# Altium integrated library TI Data Converters Analog to Digital Converter.IntLib: 2197 symbols (part 126 of 168)
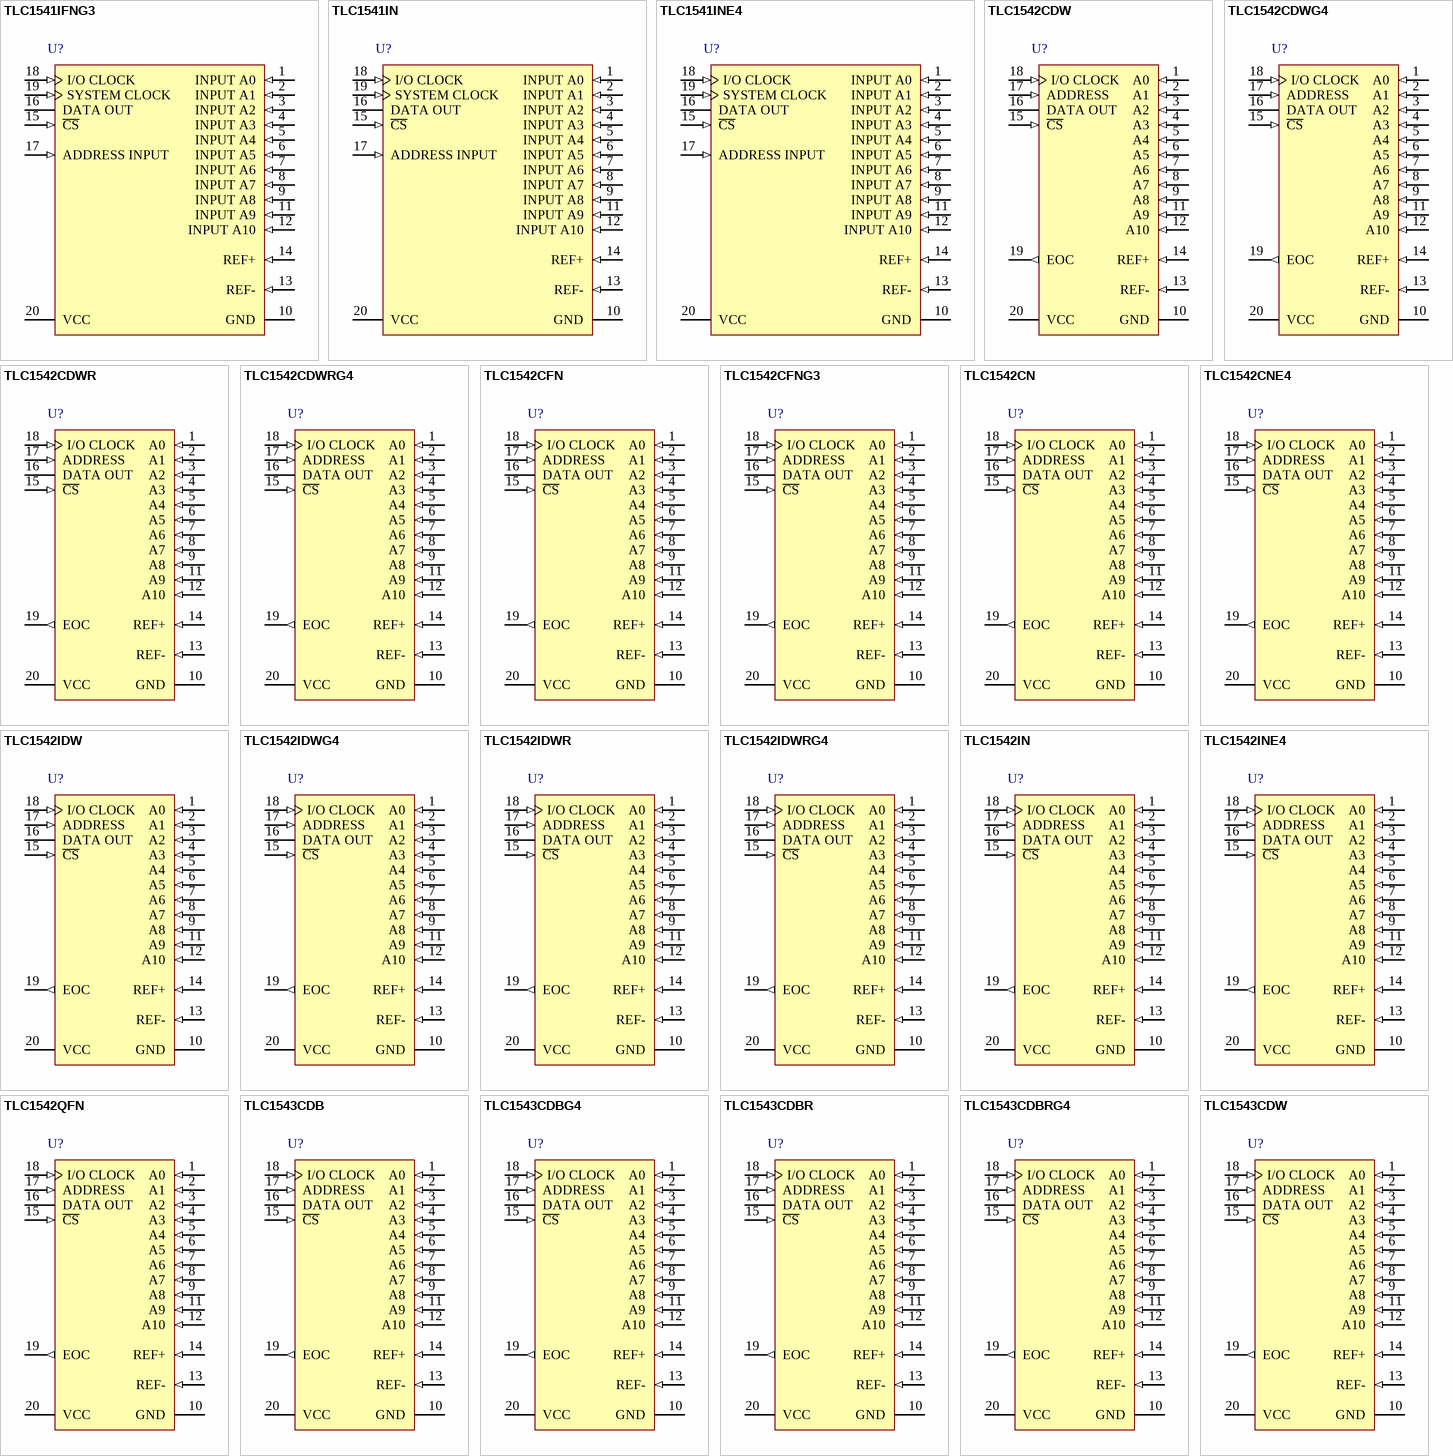
[diagram p251: symbols TLC1541IFNG3 to TLC1543CDW]

## TLC1542INE4
designator U?
10-Bit, 38 kSPS ADC Serial Out, On-Chip System Clock, 11 Channel, -40 to 85 degC, 20-pin DIP (N20), Pb-Free (RoHS); Manufacturer: Texas Instruments; PartNumber: TLC1542INE4; # Input Channels: 11; Analog Voltage AV/DD(Max)(V): 5.5; Analog Voltage AV/DD(Min)(V): 4.5; Architecture: SAR; INL(Max)(+/-LSB): 1; Interface: Serial SPI; Resolution(Bits): 10; Sample Rate (max)(SPS): 38k; SubFamily: Low Power, 8-Bit, Dual 1.5 GSPS or Single 3.0 GSPS A/D Converter; DatasheetVersion: SLAS052G; PackageVersion: 4040049/E, 12/2002; PackageReference: N20; PackageDescription: 20-Pin Plastic In-Line, Body 25.40 x 6.35 mm, Pitch 2.54 mm; Supplier 1: Digi-Key; Supplier Part Number 1: TLC549IPSR-ND; Supplier 2: Mouser; Supplier Part Number 2: 595-TLC549IPSR; Digital Supply(Max)(V): 5.5; Digital Supply(Min)(V): 4.5; Eco-Plan: Pb-Free (RoHS); Mounting Technology: Through Hole; Code_JEDEC: MS-001; ComponentLink1Description: Manufacturer URL; ComponentLink1URL: http://www.ti.com/; ComponentLink2Description: Datasheet; ComponentLink2URL: http://www.ti.com/general/docs/lit/getliterature.tsp?genericPartNumber=TLC1542&fileType=pdf; ComponentLink3Description: Package Specification; ComponentLink3URL: http://www.ti.com/lit/ml/mpdi002c/mpdi002c.pdf
footprint TI-N20 (DIP, 20-Leads, Body 25.4x6.35 mm, Pitch 2.54 mm)
pins: 1 A0 (in) "Analog signal inputs. The 11 analog inputs are applied to these terminals and are internally multiplexed. The driving source impedance should be less than or equal to 1 kohm.", 2 A1 (in) "Analog signal inputs. The 11 analog inputs are applied to these terminals and are internally multiplexed. The driving source impedance should be less than or equal to 1 kohm.", 3 A2 (in) "Analog signal inputs. The 11 analog inputs are applied to these terminals and are internally multiplexed. The driving source impedance should be less than or equal to 1 kohm.", 4 A3 (in) "Analog signal inputs. The 11 analog inputs are applied to these terminals and are internally multiplexed. The driving source impedance should be less than or equal to 1 kohm.", 5 A4 (in) "Analog signal inputs. The 11 analog inputs are applied to these terminals and are internally multiplexed. The driving source impedance should be less than or equal to 1 kohm.", 6 A5 (in) "Analog signal inputs. The 11 analog inputs are applied to these terminals and are internally multiplexed. The driving source impedance should be less than or equal to 1 kohm.", 7 A6 (in) "Analog signal inputs. The 11 analog inputs are applied to these terminals and are internally multiplexed. The driving source impedance should be less than or equal to 1 kohm.", 8 A7 (in) "Analog signal inputs. The 11 analog inputs are applied to these terminals and are internally multiplexed. The driving source impedance should be less than or equal to 1 kohm.", 9 A8 (in) "Analog signal inputs. The 11 analog inputs are applied to these terminals and are internally multiplexed. The driving source impedance should be less than or equal to 1 kohm.", 10 GND (power) "The ground return terminal for the internal circuitry. Unless otherwise noted, all voltage measurements are with respect to this terminal.", 11 A9 (in) "Analog signal inputs. The 11 analog inputs are applied to these terminals and are internally multiplexed. The driving source impedance should be less than or equal to 1 kohm.", 12 A10 (in) "Analog signal inputs. The 11 analog inputs are applied to these terminals and are internally multiplexed. The driving source impedance should be less than or equal to 1 kohm.", 13 REF- (in) "The lower reference voltage value (nominally ground) is applied to this terminal.", 14 REF+ (in) "The upper reference voltage value (nominally VCC) is applied to this terminal. The maximum input voltage range is determined by the difference between the voltage applied to this terminal and the voltage applied to the REF- (See Datasheet)", 15 ~{CS} (in) "Chip select. A high-to-low transition on this input resets the internal counters and controls and enables DATA OUT, ADDRESS, and I/O CLOCK within a maximum of a setup time plus two falling edges of the internal system clock. (See Datasheet)", 16 DATA OUT (hiz) "The 3-state serial output for the A/D conversion result. This output is in the high-impedance state when C\S\ is high and active when C\S\ is low. With a valid chip select, DATA OUT is removed from the high-impedance state (See Datasheet)", 17 ADDRESS (in) "Serial address input. A 4-bit serial address selects the desired analog input or test voltage that is to be converted next. The address data is presented with the MSB first and shifts in on the first four rising edges of I/O (See Datasheet)", 18 I/O CLOCK (in) "Input/output clock. This terminal receives the serial I/O CLOCK input and performs the following four functions: 1) It clocks the four input address bits into the address register on the first four rising edges of the I/O (See Datasheet)", 19 EOC (out) "End of conversion. This output goes from a high to a low logic level on the trailing edge of the tenth I/O CLOCK and remains low until the conversion is complete and data are ready for transfer.", 20 VCC (power) "Positive supply voltage"

## TLC1542QFN
designator U?
10-Bit, 38 kSPS ADC Serial Out, On-Chip System Clock, 11 Channel, -40 to 125 degC, 20-pin PLCC (FN20), Green (RoHS & no Sb/Br); Manufacturer: Texas Instruments; PartNumber: TLC1542QFN; # Input Channels: 11; Analog Voltage AV/DD(Max)(V): 5.5; Analog Voltage AV/DD(Min)(V): 4.5; Architecture: SAR; INL(Max)(+/-LSB): 1; Interface: Serial SPI; Resolution(Bits): 10; Sample Rate (max)(SPS): 38k; SubFamily: Low Power, 8-Bit, Dual 1.5 GSPS or Single 3.0 GSPS A/D Converter; DatasheetVersion: SLAS052G; PackageVersion: 4040005/B, 03/1995; PackageReference: FN20; PackageDescription: 20-Pin Plastic Chip Carrier, Body 8.965 x 8.965 mm, Pitch 1.27 mm; Supplier 1: Digi-Key; Supplier Part Number 1: TLC549IPSRG4-ND; Supplier 2: Mouser; Supplier Part Number 2: 595-TLC549IPSRG4; Digital Supply(Max)(V): 5.5; Digital Supply(Min)(V): 4.5; Eco-Plan: Green (RoHS & no Sb/Br); Mounting Technology: Surface Mount; Code_JEDEC: MS-018; ComponentLink1Description: Manufacturer URL; ComponentLink1URL: http://www.ti.com/; ComponentLink2Description: Datasheet; ComponentLink2URL: http://www.ti.com/general/docs/lit/getliterature.tsp?genericPartNumber=TLC1542&fileType=pdf; ComponentLink3Description: Package Specification; ComponentLink3URL: http://www.ti.com/litv/pdf/mplc004a
footprint TI-FN20_N (PLCC, 20-Leads, Body 8.965x8.965mm, Pitch 1.27mm, IPC Medium Density)
footprint TI-FN20_L (PLCC, 20-Leads, Body 8.965x8.965mm, Pitch 1.27mm, IPC High Density)
footprint TI-FN20_M (PLCC, 20-Leads, Body 8.965x8.965mm, Pitch 1.27mm, IPC Low Density)
pins: 1 A0 (in) "Analog signal inputs. The 11 analog inputs are applied to these terminals and are internally multiplexed. The driving source impedance should be less than or equal to 1 kohm.", 2 A1 (in) "Analog signal inputs. The 11 analog inputs are applied to these terminals and are internally multiplexed. The driving source impedance should be less than or equal to 1 kohm.", 3 A2 (in) "Analog signal inputs. The 11 analog inputs are applied to these terminals and are internally multiplexed. The driving source impedance should be less than or equal to 1 kohm.", 4 A3 (in) "Analog signal inputs. The 11 analog inputs are applied to these terminals and are internally multiplexed. The driving source impedance should be less than or equal to 1 kohm.", 5 A4 (in) "Analog signal inputs. The 11 analog inputs are applied to these terminals and are internally multiplexed. The driving source impedance should be less than or equal to 1 kohm.", 6 A5 (in) "Analog signal inputs. The 11 analog inputs are applied to these terminals and are internally multiplexed. The driving source impedance should be less than or equal to 1 kohm.", 7 A6 (in) "Analog signal inputs. The 11 analog inputs are applied to these terminals and are internally multiplexed. The driving source impedance should be less than or equal to 1 kohm.", 8 A7 (in) "Analog signal inputs. The 11 analog inputs are applied to these terminals and are internally multiplexed. The driving source impedance should be less than or equal to 1 kohm.", 9 A8 (in) "Analog signal inputs. The 11 analog inputs are applied to these terminals and are internally multiplexed. The driving source impedance should be less than or equal to 1 kohm.", 10 GND (power) "The ground return terminal for the internal circuitry. Unless otherwise noted, all voltage measurements are with respect to this terminal.", 11 A9 (in) "Analog signal inputs. The 11 analog inputs are applied to these terminals and are internally multiplexed. The driving source impedance should be less than or equal to 1 kohm.", 12 A10 (in) "Analog signal inputs. The 11 analog inputs are applied to these terminals and are internally multiplexed. The driving source impedance should be less than or equal to 1 kohm.", 13 REF- (in) "The lower reference voltage value (nominally ground) is applied to this terminal.", 14 REF+ (in) "The upper reference voltage value (nominally VCC) is applied to this terminal. The maximum input voltage range is determined by the difference between the voltage applied to this terminal and the voltage applied to the REF- (See Datasheet)", 15 ~{CS} (in) "Chip select. A high-to-low transition on this input resets the internal counters and controls and enables DATA OUT, ADDRESS, and I/O CLOCK within a maximum of a setup time plus two falling edges of the internal system clock. (See Datasheet)", 16 DATA OUT (hiz) "The 3-state serial output for the A/D conversion result. This output is in the high-impedance state when C\S\ is high and active when C\S\ is low. With a valid chip select, DATA OUT is removed from the high-impedance state (See Datasheet)", 17 ADDRESS (in) "Serial address input. A 4-bit serial address selects the desired analog input or test voltage that is to be converted next. The address data is presented with the MSB first and shifts in on the first four rising edges of I/O (See Datasheet)", 18 I/O CLOCK (in) "Input/output clock. This terminal receives the serial I/O CLOCK input and performs the following four functions: 1) It clocks the four input address bits into the address register on the first four rising edges of the I/O (See Datasheet)", 19 EOC (out) "End of conversion. This output goes from a high to a low logic level on the trailing edge of the tenth I/O CLOCK and remains low until the conversion is complete and data are ready for transfer.", 20 VCC (power) "Positive supply voltage"

## TLC1543CDB
designator U?
10-Bit, 38 kSPS ADC Serial Out, On-Chip System Clock, 11 Channel, 0 to 70 degC, 20-pin SOP (DB20), Green (RoHS & no Sb/Br); Manufacturer: Texas Instruments; PartNumber: TLC1543CDB; # Input Channels: 11; Analog Voltage AV/DD(Max)(V): 5.5; Analog Voltage AV/DD(Min)(V): 4.5; Architecture: SAR; INL(Max)(+/-LSB): 1; Interface: Serial SPI; Resolution(Bits): 10; Sample Rate (max)(SPS): 38k; SubFamily: Low Power, 8-Bit, Dual 1.5 GSPS or Single 3.0 GSPS A/D Converter; DatasheetVersion: SLAS052G; PackageVersion: 4040065/E, 12/2001; PackageReference: DB20; PackageDescription: 20-Pin Plastic Small Outline, Body 5.3 x 7.2 mm, Pitch 0.65 mm; Supplier 1: Digi-Key; Supplier Part Number 1: 296-2958-5-ND; Supplier 2: Mouser; Supplier Part Number 2: 595-TLV1543CDB; Digital Supply(Max)(V): 5.5; Digital Supply(Min)(V): 4.5; Eco-Plan: Green (RoHS & no Sb/Br); Mounting Technology: Surface Mount; Code_JEDEC: MO-150; ComponentLink1Description: Manufacturer URL; ComponentLink1URL: http://www.ti.com/; ComponentLink2Description: Datasheet; ComponentLink2URL: http://www.ti.com/general/docs/lit/getliterature.tsp?genericPartNumber=TLC1543&fileType=pdf; ComponentLink3Description: Package Specification; ComponentLink3URL: http://www.ti.com/lit/ml/msso002e/msso002e.pdf
footprint TI-DB20_N (SOP, 20-Leads, Body 7.2x5.3mm, Pitch 0.65mm, IPC Medium Density)
footprint TI-DB20_L (SOP, 20-Leads, Body 7.2x5.3mm, Pitch 0.65mm, IPC High Density)
footprint TI-DB20_M (SOP, 20-Leads, Body 7.2x5.3mm, Pitch 0.65mm, IPC Low Density)
pins: 1 A0 (in) "Analog signal inputs. The 11 analog inputs are applied to these terminals and are internally multiplexed. The driving source impedance should be less than or equal to 1 kohm.", 2 A1 (in) "Analog signal inputs. The 11 analog inputs are applied to these terminals and are internally multiplexed. The driving source impedance should be less than or equal to 1 kohm.", 3 A2 (in) "Analog signal inputs. The 11 analog inputs are applied to these terminals and are internally multiplexed. The driving source impedance should be less than or equal to 1 kohm.", 4 A3 (in) "Analog signal inputs. The 11 analog inputs are applied to these terminals and are internally multiplexed. The driving source impedance should be less than or equal to 1 kohm.", 5 A4 (in) "Analog signal inputs. The 11 analog inputs are applied to these terminals and are internally multiplexed. The driving source impedance should be less than or equal to 1 kohm.", 6 A5 (in) "Analog signal inputs. The 11 analog inputs are applied to these terminals and are internally multiplexed. The driving source impedance should be less than or equal to 1 kohm.", 7 A6 (in) "Analog signal inputs. The 11 analog inputs are applied to these terminals and are internally multiplexed. The driving source impedance should be less than or equal to 1 kohm.", 8 A7 (in) "Analog signal inputs. The 11 analog inputs are applied to these terminals and are internally multiplexed. The driving source impedance should be less than or equal to 1 kohm.", 9 A8 (in) "Analog signal inputs. The 11 analog inputs are applied to these terminals and are internally multiplexed. The driving source impedance should be less than or equal to 1 kohm.", 10 GND (power) "The ground return terminal for the internal circuitry. Unless otherwise noted, all voltage measurements are with respect to this terminal.", 11 A9 (in) "Analog signal inputs. The 11 analog inputs are applied to these terminals and are internally multiplexed. The driving source impedance should be less than or equal to 1 kohm.", 12 A10 (in) "Analog signal inputs. The 11 analog inputs are applied to these terminals and are internally multiplexed. The driving source impedance should be less than or equal to 1 kohm.", 13 REF- (in) "The lower reference voltage value (nominally ground) is applied to this terminal.", 14 REF+ (in) "The upper reference voltage value (nominally VCC) is applied to this terminal. The maximum input voltage range is determined by the difference between the voltage applied to this terminal and the voltage applied to the REF- (See Datasheet)", 15 ~{CS} (in) "Chip select. A high-to-low transition on this input resets the internal counters and controls and enables DATA OUT, ADDRESS, and I/O CLOCK within a maximum of a setup time plus two falling edges of the internal system clock. (See Datasheet)", 16 DATA OUT (hiz) "The 3-state serial output for the A/D conversion result. This output is in the high-impedance state when C\S\ is high and active when C\S\ is low. With a valid chip select, DATA OUT is removed from the high-impedance state (See Datasheet)", 17 ADDRESS (in) "Serial address input. A 4-bit serial address selects the desired analog input or test voltage that is to be converted next. The address data is presented with the MSB first and shifts in on the first four rising edges of I/O (See Datasheet)", 18 I/O CLOCK (in) "Input/output clock. This terminal receives the serial I/O CLOCK input and performs the following four functions: 1) It clocks the four input address bits into the address register on the first four rising edges of the I/O (See Datasheet)", 19 EOC (out) "End of conversion. This output goes from a high to a low logic level on the trailing edge of the tenth I/O CLOCK and remains low until the conversion is complete and data are ready for transfer.", 20 VCC (power) "Positive supply voltage"

## TLC1543CDBG4
designator U?
10-Bit, 38 kSPS ADC Serial Out, On-Chip System Clock, 11 Channel, 0 to 70 degC, 20-pin SOP (DB20), Green (RoHS & no Sb/Br); Manufacturer: Texas Instruments; PartNumber: TLC1543CDBG4; # Input Channels: 11; Analog Voltage AV/DD(Max)(V): 5.5; Analog Voltage AV/DD(Min)(V): 4.5; Architecture: SAR; INL(Max)(+/-LSB): 1; Interface: Serial SPI; Resolution(Bits): 10; Sample Rate (max)(SPS): 38k; SubFamily: Low Power, 8-Bit, Dual 1.5 GSPS or Single 3.0 GSPS A/D Converter; DatasheetVersion: SLAS052G; PackageVersion: 4040065/E, 12/2001; PackageReference: DB20; PackageDescription: 20-Pin Plastic Small Outline, Body 5.3 x 7.2 mm, Pitch 0.65 mm; Supplier 1: Digi-Key; Supplier Part Number 1: TLV1543CDBG4-ND; Supplier 2: Mouser; Supplier Part Number 2: 595-TLV1543CDBG4; Digital Supply(Max)(V): 5.5; Digital Supply(Min)(V): 4.5; Eco-Plan: Green (RoHS & no Sb/Br); Mounting Technology: Surface Mount; Code_JEDEC: MO-150; ComponentLink1Description: Manufacturer URL; ComponentLink1URL: http://www.ti.com/; ComponentLink2Description: Datasheet; ComponentLink2URL: http://www.ti.com/general/docs/lit/getliterature.tsp?genericPartNumber=TLC1543&fileType=pdf; ComponentLink3Description: Package Specification; ComponentLink3URL: http://www.ti.com/lit/ml/msso002e/msso002e.pdf
footprint TI-DB20_N (SOP, 20-Leads, Body 7.2x5.3mm, Pitch 0.65mm, IPC Medium Density)
footprint TI-DB20_L (SOP, 20-Leads, Body 7.2x5.3mm, Pitch 0.65mm, IPC High Density)
footprint TI-DB20_M (SOP, 20-Leads, Body 7.2x5.3mm, Pitch 0.65mm, IPC Low Density)
pins: 1 A0 (in) "Analog signal inputs. The 11 analog inputs are applied to these terminals and are internally multiplexed. The driving source impedance should be less than or equal to 1 kohm.", 2 A1 (in) "Analog signal inputs. The 11 analog inputs are applied to these terminals and are internally multiplexed. The driving source impedance should be less than or equal to 1 kohm.", 3 A2 (in) "Analog signal inputs. The 11 analog inputs are applied to these terminals and are internally multiplexed. The driving source impedance should be less than or equal to 1 kohm.", 4 A3 (in) "Analog signal inputs. The 11 analog inputs are applied to these terminals and are internally multiplexed. The driving source impedance should be less than or equal to 1 kohm.", 5 A4 (in) "Analog signal inputs. The 11 analog inputs are applied to these terminals and are internally multiplexed. The driving source impedance should be less than or equal to 1 kohm.", 6 A5 (in) "Analog signal inputs. The 11 analog inputs are applied to these terminals and are internally multiplexed. The driving source impedance should be less than or equal to 1 kohm.", 7 A6 (in) "Analog signal inputs. The 11 analog inputs are applied to these terminals and are internally multiplexed. The driving source impedance should be less than or equal to 1 kohm.", 8 A7 (in) "Analog signal inputs. The 11 analog inputs are applied to these terminals and are internally multiplexed. The driving source impedance should be less than or equal to 1 kohm.", 9 A8 (in) "Analog signal inputs. The 11 analog inputs are applied to these terminals and are internally multiplexed. The driving source impedance should be less than or equal to 1 kohm.", 10 GND (power) "The ground return terminal for the internal circuitry. Unless otherwise noted, all voltage measurements are with respect to this terminal.", 11 A9 (in) "Analog signal inputs. The 11 analog inputs are applied to these terminals and are internally multiplexed. The driving source impedance should be less than or equal to 1 kohm.", 12 A10 (in) "Analog signal inputs. The 11 analog inputs are applied to these terminals and are internally multiplexed. The driving source impedance should be less than or equal to 1 kohm.", 13 REF- (in) "The lower reference voltage value (nominally ground) is applied to this terminal.", 14 REF+ (in) "The upper reference voltage value (nominally VCC) is applied to this terminal. The maximum input voltage range is determined by the difference between the voltage applied to this terminal and the voltage applied to the REF- (See Datasheet)", 15 ~{CS} (in) "Chip select. A high-to-low transition on this input resets the internal counters and controls and enables DATA OUT, ADDRESS, and I/O CLOCK within a maximum of a setup time plus two falling edges of the internal system clock. (See Datasheet)", 16 DATA OUT (hiz) "The 3-state serial output for the A/D conversion result. This output is in the high-impedance state when C\S\ is high and active when C\S\ is low. With a valid chip select, DATA OUT is removed from the high-impedance state (See Datasheet)", 17 ADDRESS (in) "Serial address input. A 4-bit serial address selects the desired analog input or test voltage that is to be converted next. The address data is presented with the MSB first and shifts in on the first four rising edges of I/O (See Datasheet)", 18 I/O CLOCK (in) "Input/output clock. This terminal receives the serial I/O CLOCK input and performs the following four functions: 1) It clocks the four input address bits into the address register on the first four rising edges of the I/O (See Datasheet)", 19 EOC (out) "End of conversion. This output goes from a high to a low logic level on the trailing edge of the tenth I/O CLOCK and remains low until the conversion is complete and data are ready for transfer.", 20 VCC (power) "Positive supply voltage"

## TLC1543CDBR
designator U?
10-Bit, 38 kSPS ADC Serial Out, On-Chip System Clock, 11 Channel, 0 to 70 degC, 20-pin SOP (DB20), Green (RoHS & no Sb/Br); Manufacturer: Texas Instruments; PartNumber: TLC1543CDBR; # Input Channels: 11; Analog Voltage AV/DD(Max)(V): 5.5; Analog Voltage AV/DD(Min)(V): 4.5; Architecture: SAR; INL(Max)(+/-LSB): 1; Interface: Serial SPI; Resolution(Bits): 10; Sample Rate (max)(SPS): 38k; SubFamily: Low Power, 8-Bit, Dual 1.5 GSPS or Single 3.0 GSPS A/D Converter; DatasheetVersion: SLAS052G; PackageVersion: 4040065/E, 12/2001; PackageReference: DB20; PackageDescription: 20-Pin Plastic Small Outline, Body 5.3 x 7.2 mm, Pitch 0.65 mm; Supplier 1: Digi-Key; Supplier Part Number 1: TLV1543CDBR-ND; Supplier 2: Mouser; Supplier Part Number 2: 595-TLV1543CDBR; Digital Supply(Max)(V): 5.5; Digital Supply(Min)(V): 4.5; Eco-Plan: Green (RoHS & no Sb/Br); Mounting Technology: Surface Mount; Code_JEDEC: MO-150; ComponentLink1Description: Manufacturer URL; ComponentLink1URL: http://www.ti.com/; ComponentLink2Description: Datasheet; ComponentLink2URL: http://www.ti.com/general/docs/lit/getliterature.tsp?genericPartNumber=TLC1543&fileType=pdf; ComponentLink3Description: Package Specification; ComponentLink3URL: http://www.ti.com/lit/ml/msso002e/msso002e.pdf
footprint TI-DB20_N (SOP, 20-Leads, Body 7.2x5.3mm, Pitch 0.65mm, IPC Medium Density)
footprint TI-DB20_L (SOP, 20-Leads, Body 7.2x5.3mm, Pitch 0.65mm, IPC High Density)
footprint TI-DB20_M (SOP, 20-Leads, Body 7.2x5.3mm, Pitch 0.65mm, IPC Low Density)
pins: 1 A0 (in) "Analog signal inputs. The 11 analog inputs are applied to these terminals and are internally multiplexed. The driving source impedance should be less than or equal to 1 kohm.", 2 A1 (in) "Analog signal inputs. The 11 analog inputs are applied to these terminals and are internally multiplexed. The driving source impedance should be less than or equal to 1 kohm.", 3 A2 (in) "Analog signal inputs. The 11 analog inputs are applied to these terminals and are internally multiplexed. The driving source impedance should be less than or equal to 1 kohm.", 4 A3 (in) "Analog signal inputs. The 11 analog inputs are applied to these terminals and are internally multiplexed. The driving source impedance should be less than or equal to 1 kohm.", 5 A4 (in) "Analog signal inputs. The 11 analog inputs are applied to these terminals and are internally multiplexed. The driving source impedance should be less than or equal to 1 kohm.", 6 A5 (in) "Analog signal inputs. The 11 analog inputs are applied to these terminals and are internally multiplexed. The driving source impedance should be less than or equal to 1 kohm.", 7 A6 (in) "Analog signal inputs. The 11 analog inputs are applied to these terminals and are internally multiplexed. The driving source impedance should be less than or equal to 1 kohm.", 8 A7 (in) "Analog signal inputs. The 11 analog inputs are applied to these terminals and are internally multiplexed. The driving source impedance should be less than or equal to 1 kohm.", 9 A8 (in) "Analog signal inputs. The 11 analog inputs are applied to these terminals and are internally multiplexed. The driving source impedance should be less than or equal to 1 kohm.", 10 GND (power) "The ground return terminal for the internal circuitry. Unless otherwise noted, all voltage measurements are with respect to this terminal.", 11 A9 (in) "Analog signal inputs. The 11 analog inputs are applied to these terminals and are internally multiplexed. The driving source impedance should be less than or equal to 1 kohm.", 12 A10 (in) "Analog signal inputs. The 11 analog inputs are applied to these terminals and are internally multiplexed. The driving source impedance should be less than or equal to 1 kohm.", 13 REF- (in) "The lower reference voltage value (nominally ground) is applied to this terminal.", 14 REF+ (in) "The upper reference voltage value (nominally VCC) is applied to this terminal. The maximum input voltage range is determined by the difference between the voltage applied to this terminal and the voltage applied to the REF- (See Datasheet)", 15 ~{CS} (in) "Chip select. A high-to-low transition on this input resets the internal counters and controls and enables DATA OUT, ADDRESS, and I/O CLOCK within a maximum of a setup time plus two falling edges of the internal system clock. (See Datasheet)", 16 DATA OUT (hiz) "The 3-state serial output for the A/D conversion result. This output is in the high-impedance state when C\S\ is high and active when C\S\ is low. With a valid chip select, DATA OUT is removed from the high-impedance state (See Datasheet)", 17 ADDRESS (in) "Serial address input. A 4-bit serial address selects the desired analog input or test voltage that is to be converted next. The address data is presented with the MSB first and shifts in on the first four rising edges of I/O (See Datasheet)", 18 I/O CLOCK (in) "Input/output clock. This terminal receives the serial I/O CLOCK input and performs the following four functions: 1) It clocks the four input address bits into the address register on the first four rising edges of the I/O (See Datasheet)", 19 EOC (out) "End of conversion. This output goes from a high to a low logic level on the trailing edge of the tenth I/O CLOCK and remains low until the conversion is complete and data are ready for transfer.", 20 VCC (power) "Positive supply voltage"

## TLC1543CDBRG4
designator U?
10-Bit, 38 kSPS ADC Serial Out, On-Chip System Clock, 11 Channel, 0 to 70 degC, 20-pin SOP (DB20), Green (RoHS & no Sb/Br); Manufacturer: Texas Instruments; PartNumber: TLC1543CDBRG4; # Input Channels: 11; Analog Voltage AV/DD(Max)(V): 5.5; Analog Voltage AV/DD(Min)(V): 4.5; Architecture: SAR; INL(Max)(+/-LSB): 1; Interface: Serial SPI; Resolution(Bits): 10; Sample Rate (max)(SPS): 38k; SubFamily: Low Power, 8-Bit, Dual 1.5 GSPS or Single 3.0 GSPS A/D Converter; DatasheetVersion: SLAS052G; PackageVersion: 4040065/E, 12/2001; PackageReference: DB20; PackageDescription: 20-Pin Plastic Small Outline, Body 5.3 x 7.2 mm, Pitch 0.65 mm; Supplier 1: Digi-Key; Supplier Part Number 1: TLV1543CDBRG4-ND; Supplier 2: Mouser; Supplier Part Number 2: 595-TLV1543CDBRG4; Digital Supply(Max)(V): 5.5; Digital Supply(Min)(V): 4.5; Eco-Plan: Green (RoHS & no Sb/Br); Mounting Technology: Surface Mount; Code_JEDEC: MO-150; ComponentLink1Description: Manufacturer URL; ComponentLink1URL: http://www.ti.com/; ComponentLink2Description: Datasheet; ComponentLink2URL: http://www.ti.com/general/docs/lit/getliterature.tsp?genericPartNumber=TLC1543&fileType=pdf; ComponentLink3Description: Package Specification; ComponentLink3URL: http://www.ti.com/lit/ml/msso002e/msso002e.pdf
footprint TI-DB20_N (SOP, 20-Leads, Body 7.2x5.3mm, Pitch 0.65mm, IPC Medium Density)
footprint TI-DB20_L (SOP, 20-Leads, Body 7.2x5.3mm, Pitch 0.65mm, IPC High Density)
footprint TI-DB20_M (SOP, 20-Leads, Body 7.2x5.3mm, Pitch 0.65mm, IPC Low Density)
pins: 1 A0 (in) "Analog signal inputs. The 11 analog inputs are applied to these terminals and are internally multiplexed. The driving source impedance should be less than or equal to 1 kohm.", 2 A1 (in) "Analog signal inputs. The 11 analog inputs are applied to these terminals and are internally multiplexed. The driving source impedance should be less than or equal to 1 kohm.", 3 A2 (in) "Analog signal inputs. The 11 analog inputs are applied to these terminals and are internally multiplexed. The driving source impedance should be less than or equal to 1 kohm.", 4 A3 (in) "Analog signal inputs. The 11 analog inputs are applied to these terminals and are internally multiplexed. The driving source impedance should be less than or equal to 1 kohm.", 5 A4 (in) "Analog signal inputs. The 11 analog inputs are applied to these terminals and are internally multiplexed. The driving source impedance should be less than or equal to 1 kohm.", 6 A5 (in) "Analog signal inputs. The 11 analog inputs are applied to these terminals and are internally multiplexed. The driving source impedance should be less than or equal to 1 kohm.", 7 A6 (in) "Analog signal inputs. The 11 analog inputs are applied to these terminals and are internally multiplexed. The driving source impedance should be less than or equal to 1 kohm.", 8 A7 (in) "Analog signal inputs. The 11 analog inputs are applied to these terminals and are internally multiplexed. The driving source impedance should be less than or equal to 1 kohm.", 9 A8 (in) "Analog signal inputs. The 11 analog inputs are applied to these terminals and are internally multiplexed. The driving source impedance should be less than or equal to 1 kohm.", 10 GND (power) "The ground return terminal for the internal circuitry. Unless otherwise noted, all voltage measurements are with respect to this terminal.", 11 A9 (in) "Analog signal inputs. The 11 analog inputs are applied to these terminals and are internally multiplexed. The driving source impedance should be less than or equal to 1 kohm.", 12 A10 (in) "Analog signal inputs. The 11 analog inputs are applied to these terminals and are internally multiplexed. The driving source impedance should be less than or equal to 1 kohm.", 13 REF- (in) "The lower reference voltage value (nominally ground) is applied to this terminal.", 14 REF+ (in) "The upper reference voltage value (nominally VCC) is applied to this terminal. The maximum input voltage range is determined by the difference between the voltage applied to this terminal and the voltage applied to the REF- (See Datasheet)", 15 ~{CS} (in) "Chip select. A high-to-low transition on this input resets the internal counters and controls and enables DATA OUT, ADDRESS, and I/O CLOCK within a maximum of a setup time plus two falling edges of the internal system clock. (See Datasheet)", 16 DATA OUT (hiz) "The 3-state serial output for the A/D conversion result. This output is in the high-impedance state when C\S\ is high and active when C\S\ is low. With a valid chip select, DATA OUT is removed from the high-impedance state (See Datasheet)", 17 ADDRESS (in) "Serial address input. A 4-bit serial address selects the desired analog input or test voltage that is to be converted next. The address data is presented with the MSB first and shifts in on the first four rising edges of I/O (See Datasheet)", 18 I/O CLOCK (in) "Input/output clock. This terminal receives the serial I/O CLOCK input and performs the following four functions: 1) It clocks the four input address bits into the address register on the first four rising edges of the I/O (See Datasheet)", 19 EOC (out) "End of conversion. This output goes from a high to a low logic level on the trailing edge of the tenth I/O CLOCK and remains low until the conversion is complete and data are ready for transfer.", 20 VCC (power) "Positive supply voltage"

## TLC1543CDW
designator U?
10-Bit, 38 kSPS ADC Serial Out, On-Chip System Clock, 11 Channel, 0 to 70 degC, 20-pin SOIC (DW20), Green (RoHS & no Sb/Br); Manufacturer: Texas Instruments; PartNumber: TLC1543CDW; # Input Channels: 11; Analog Voltage AV/DD(Max)(V): 5.5; Analog Voltage AV/DD(Min)(V): 4.5; Architecture: SAR; INL(Max)(+/-LSB): 1; Interface: Serial SPI; Resolution(Bits): 10; Sample Rate (max)(SPS): 38k; SubFamily: Low Power, 8-Bit, Dual 1.5 GSPS or Single 3.0 GSPS A/D Converter; DatasheetVersion: SLAS052G; PackageVersion: 4040000-4/G, 01/2011; PackageReference: DW20; PackageDescription: 20-Pin Plastic Small Outline, Body 12.8 x 7.5 mm, Pitch 1.27 mm; Supplier 1: Digi-Key; Supplier Part Number 1: 296-1878-5-ND; Supplier 2: Newark; Supplier Part Number 2: 35C2169; Supplier 3: Mouser; Supplier Part Number 3: 595-TLV1543CDW; Digital Supply(Max)(V): 5.5; Digital Supply(Min)(V): 4.5; Eco-Plan: Green (RoHS & no Sb/Br); Mounting Technology: Surface Mount; Code_JEDEC: MO-013; ComponentLink1Description: Manufacturer URL; ComponentLink1URL: http://www.ti.com/; ComponentLink2Description: Datasheet; ComponentLink2URL: http://www.ti.com/general/docs/lit/getliterature.tsp?genericPartNumber=TLC1543&fileType=pdf; ComponentLink3Description: Package Specification; ComponentLink3URL: http://www.ti.com/lit/ml/mpds173a/mpds173a.pdf
footprint TI-DW20_N (SOIC, 20-Leads, Body 12.8x7.5mm, Pitch 1.27mm, IPC Medium Density)
footprint TI-DW20_L (SOIC, 20-Leads, Body 12.8x7.5mm, Pitch 1.27mm, IPC High Density)
footprint TI-DW20_M (SOIC, 20-Leads, Body 12.8x7.5mm, Pitch 1.27mm, IPC Low Density)
pins: 1 A0 (in) "Analog signal inputs. The 11 analog inputs are applied to these terminals and are internally multiplexed. The driving source impedance should be less than or equal to 1 kohm.", 2 A1 (in) "Analog signal inputs. The 11 analog inputs are applied to these terminals and are internally multiplexed. The driving source impedance should be less than or equal to 1 kohm.", 3 A2 (in) "Analog signal inputs. The 11 analog inputs are applied to these terminals and are internally multiplexed. The driving source impedance should be less than or equal to 1 kohm.", 4 A3 (in) "Analog signal inputs. The 11 analog inputs are applied to these terminals and are internally multiplexed. The driving source impedance should be less than or equal to 1 kohm.", 5 A4 (in) "Analog signal inputs. The 11 analog inputs are applied to these terminals and are internally multiplexed. The driving source impedance should be less than or equal to 1 kohm.", 6 A5 (in) "Analog signal inputs. The 11 analog inputs are applied to these terminals and are internally multiplexed. The driving source impedance should be less than or equal to 1 kohm.", 7 A6 (in) "Analog signal inputs. The 11 analog inputs are applied to these terminals and are internally multiplexed. The driving source impedance should be less than or equal to 1 kohm.", 8 A7 (in) "Analog signal inputs. The 11 analog inputs are applied to these terminals and are internally multiplexed. The driving source impedance should be less than or equal to 1 kohm.", 9 A8 (in) "Analog signal inputs. The 11 analog inputs are applied to these terminals and are internally multiplexed. The driving source impedance should be less than or equal to 1 kohm.", 10 GND (power) "The ground return terminal for the internal circuitry. Unless otherwise noted, all voltage measurements are with respect to this terminal.", 11 A9 (in) "Analog signal inputs. The 11 analog inputs are applied to these terminals and are internally multiplexed. The driving source impedance should be less than or equal to 1 kohm.", 12 A10 (in) "Analog signal inputs. The 11 analog inputs are applied to these terminals and are internally multiplexed. The driving source impedance should be less than or equal to 1 kohm.", 13 REF- (in) "The lower reference voltage value (nominally ground) is applied to this terminal.", 14 REF+ (in) "The upper reference voltage value (nominally VCC) is applied to this terminal. The maximum input voltage range is determined by the difference between the voltage applied to this terminal and the voltage applied to the REF- (See Datasheet)", 15 ~{CS} (in) "Chip select. A high-to-low transition on this input resets the internal counters and controls and enables DATA OUT, ADDRESS, and I/O CLOCK within a maximum of a setup time plus two falling edges of the internal system clock. (See Datasheet)", 16 DATA OUT (hiz) "The 3-state serial output for the A/D conversion result. This output is in the high-impedance state when C\S\ is high and active when C\S\ is low. With a valid chip select, DATA OUT is removed from the high-impedance state (See Datasheet)", 17 ADDRESS (in) "Serial address input. A 4-bit serial address selects the desired analog input or test voltage that is to be converted next. The address data is presented with the MSB first and shifts in on the first four rising edges of I/O (See Datasheet)", 18 I/O CLOCK (in) "Input/output clock. This terminal receives the serial I/O CLOCK input and performs the following four functions: 1) It clocks the four input address bits into the address register on the first four rising edges of the I/O (See Datasheet)", 19 EOC (out) "End of conversion. This output goes from a high to a low logic level on the trailing edge of the tenth I/O CLOCK and remains low until the conversion is complete and data are ready for transfer.", 20 VCC (power) "Positive supply voltage"

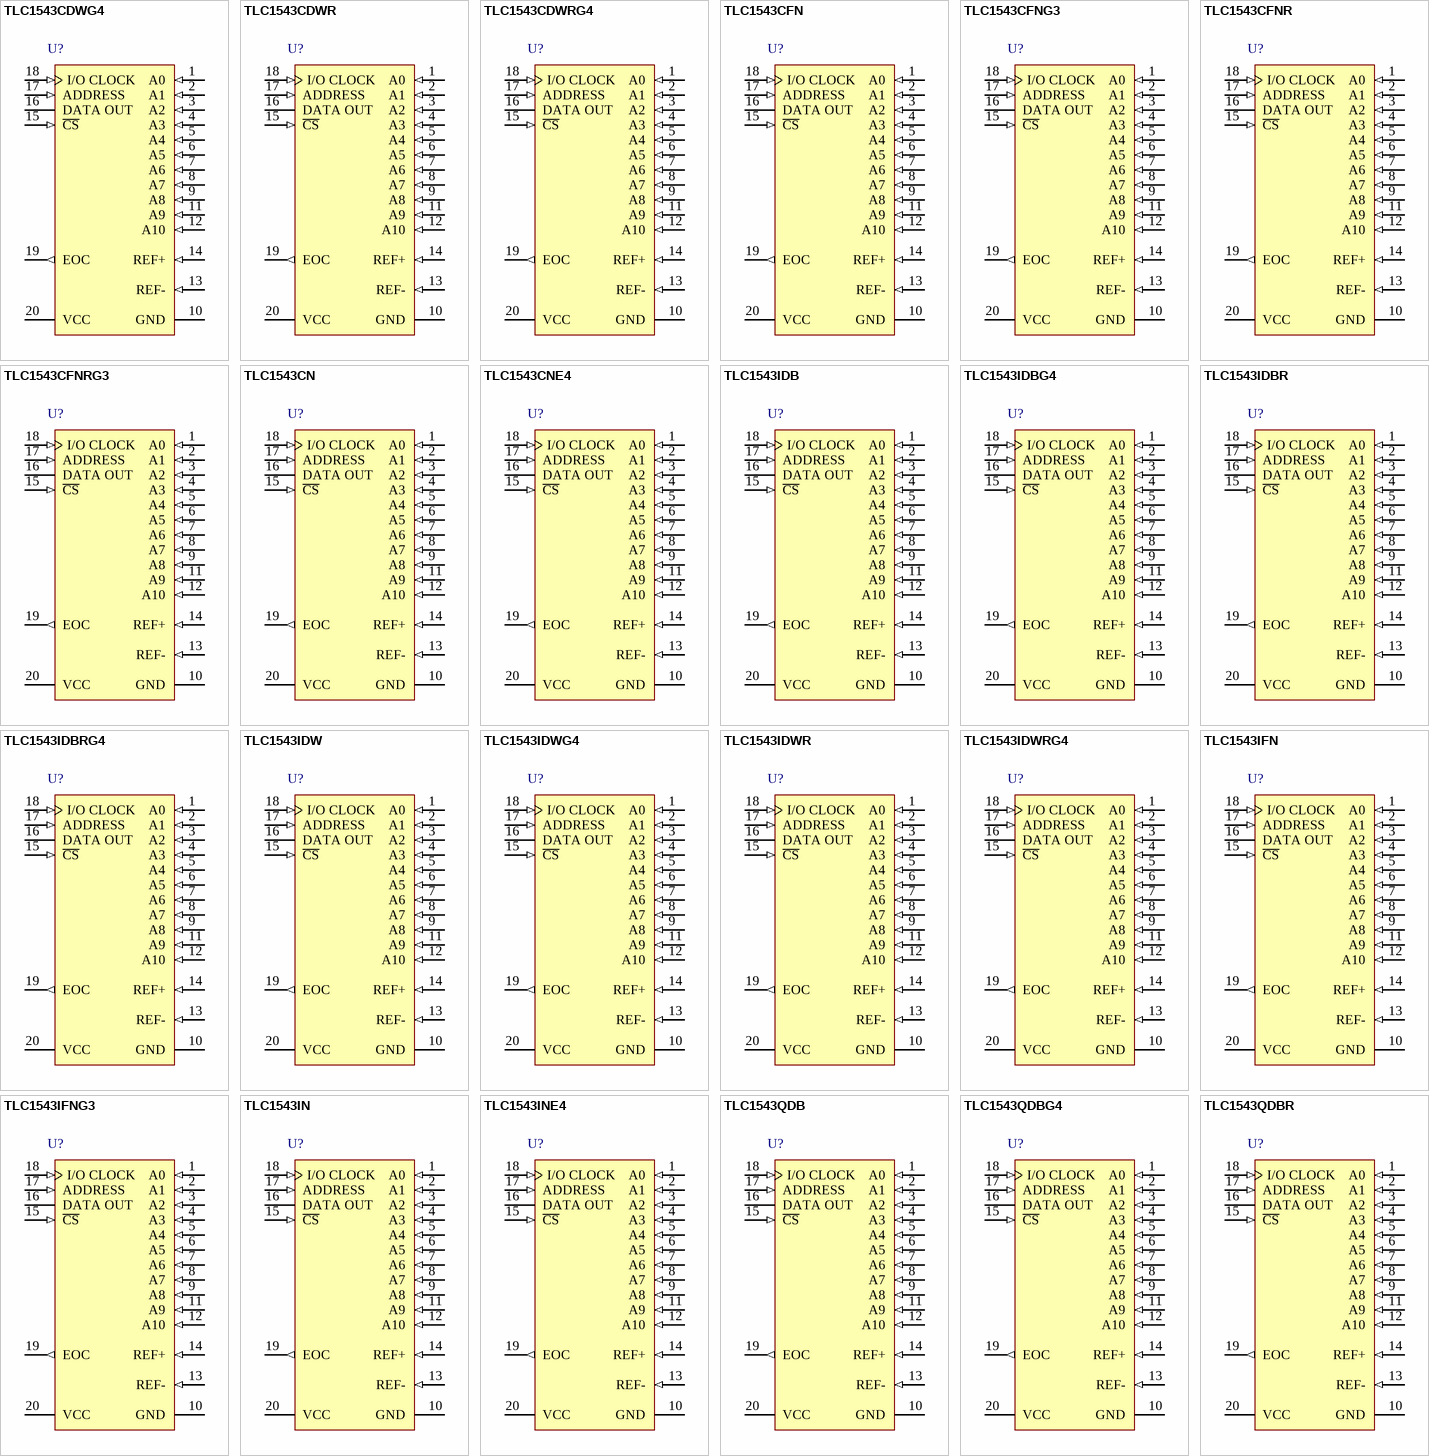
[diagram p107: symbols TLC1543CDWG4 to TLC1543QDBR]

## TLC1543CDWG4
designator U?
10-Bit, 38 kSPS ADC Serial Out, On-Chip System Clock, 11 Channel, 0 to 70 degC, 20-pin SOIC (DW20), Green (RoHS & no Sb/Br); Manufacturer: Texas Instruments; PartNumber: TLC1543CDWG4; # Input Channels: 11; Analog Voltage AV/DD(Max)(V): 5.5; Analog Voltage AV/DD(Min)(V): 4.5; Architecture: SAR; INL(Max)(+/-LSB): 1; Interface: Serial SPI; Resolution(Bits): 10; Sample Rate (max)(SPS): 38k; SubFamily: Low Power, 8-Bit, Dual 1.5 GSPS or Single 3.0 GSPS A/D Converter; DatasheetVersion: SLAS052G; PackageVersion: 4040000-4/G, 01/2011; PackageReference: DW20; PackageDescription: 20-Pin Plastic Small Outline, Body 12.8 x 7.5 mm, Pitch 1.27 mm; Supplier 1: Digi-Key; Supplier Part Number 1: TLV1543CDWG4-ND; Supplier 2: Mouser; Supplier Part Number 2: 595-TLV1543CDWG4; Digital Supply(Max)(V): 5.5; Digital Supply(Min)(V): 4.5; Eco-Plan: Green (RoHS & no Sb/Br); Mounting Technology: Surface Mount; Code_JEDEC: MO-013; ComponentLink1Description: Manufacturer URL; ComponentLink1URL: http://www.ti.com/; ComponentLink2Description: Datasheet; ComponentLink2URL: http://www.ti.com/general/docs/lit/getliterature.tsp?genericPartNumber=TLC1543&fileType=pdf; ComponentLink3Description: Package Specification; ComponentLink3URL: http://www.ti.com/lit/ml/mpds173a/mpds173a.pdf
footprint TI-DW20_N (SOIC, 20-Leads, Body 12.8x7.5mm, Pitch 1.27mm, IPC Medium Density)
footprint TI-DW20_L (SOIC, 20-Leads, Body 12.8x7.5mm, Pitch 1.27mm, IPC High Density)
footprint TI-DW20_M (SOIC, 20-Leads, Body 12.8x7.5mm, Pitch 1.27mm, IPC Low Density)
pins: 1 A0 (in) "Analog signal inputs. The 11 analog inputs are applied to these terminals and are internally multiplexed. The driving source impedance should be less than or equal to 1 kohm.", 2 A1 (in) "Analog signal inputs. The 11 analog inputs are applied to these terminals and are internally multiplexed. The driving source impedance should be less than or equal to 1 kohm.", 3 A2 (in) "Analog signal inputs. The 11 analog inputs are applied to these terminals and are internally multiplexed. The driving source impedance should be less than or equal to 1 kohm.", 4 A3 (in) "Analog signal inputs. The 11 analog inputs are applied to these terminals and are internally multiplexed. The driving source impedance should be less than or equal to 1 kohm.", 5 A4 (in) "Analog signal inputs. The 11 analog inputs are applied to these terminals and are internally multiplexed. The driving source impedance should be less than or equal to 1 kohm.", 6 A5 (in) "Analog signal inputs. The 11 analog inputs are applied to these terminals and are internally multiplexed. The driving source impedance should be less than or equal to 1 kohm.", 7 A6 (in) "Analog signal inputs. The 11 analog inputs are applied to these terminals and are internally multiplexed. The driving source impedance should be less than or equal to 1 kohm.", 8 A7 (in) "Analog signal inputs. The 11 analog inputs are applied to these terminals and are internally multiplexed. The driving source impedance should be less than or equal to 1 kohm.", 9 A8 (in) "Analog signal inputs. The 11 analog inputs are applied to these terminals and are internally multiplexed. The driving source impedance should be less than or equal to 1 kohm.", 10 GND (power) "The ground return terminal for the internal circuitry. Unless otherwise noted, all voltage measurements are with respect to this terminal.", 11 A9 (in) "Analog signal inputs. The 11 analog inputs are applied to these terminals and are internally multiplexed. The driving source impedance should be less than or equal to 1 kohm.", 12 A10 (in) "Analog signal inputs. The 11 analog inputs are applied to these terminals and are internally multiplexed. The driving source impedance should be less than or equal to 1 kohm.", 13 REF- (in) "The lower reference voltage value (nominally ground) is applied to this terminal.", 14 REF+ (in) "The upper reference voltage value (nominally VCC) is applied to this terminal. The maximum input voltage range is determined by the difference between the voltage applied to this terminal and the voltage applied to the REF- (See Datasheet)", 15 ~{CS} (in) "Chip select. A high-to-low transition on this input resets the internal counters and controls and enables DATA OUT, ADDRESS, and I/O CLOCK within a maximum of a setup time plus two falling edges of the internal system clock. (See Datasheet)", 16 DATA OUT (hiz) "The 3-state serial output for the A/D conversion result. This output is in the high-impedance state when C\S\ is high and active when C\S\ is low. With a valid chip select, DATA OUT is removed from the high-impedance state (See Datasheet)", 17 ADDRESS (in) "Serial address input. A 4-bit serial address selects the desired analog input or test voltage that is to be converted next. The address data is presented with the MSB first and shifts in on the first four rising edges of I/O (See Datasheet)", 18 I/O CLOCK (in) "Input/output clock. This terminal receives the serial I/O CLOCK input and performs the following four functions: 1) It clocks the four input address bits into the address register on the first four rising edges of the I/O (See Datasheet)", 19 EOC (out) "End of conversion. This output goes from a high to a low logic level on the trailing edge of the tenth I/O CLOCK and remains low until the conversion is complete and data are ready for transfer.", 20 VCC (power) "Positive supply voltage"

## TLC1543CDWR
designator U?
10-Bit, 38 kSPS ADC Serial Out, On-Chip System Clock, 11 Channel, 0 to 70 degC, 20-pin SOIC (DW20), Green (RoHS & no Sb/Br); Manufacturer: Texas Instruments; PartNumber: TLC1543CDWR; # Input Channels: 11; Analog Voltage AV/DD(Max)(V): 5.5; Analog Voltage AV/DD(Min)(V): 4.5; Architecture: SAR; INL(Max)(+/-LSB): 1; Interface: Serial SPI; Resolution(Bits): 10; Sample Rate (max)(SPS): 38k; SubFamily: Low Power, 8-Bit, Dual 1.5 GSPS or Single 3.0 GSPS A/D Converter; DatasheetVersion: SLAS052G; PackageVersion: 4040000-4/G, 01/2011; PackageReference: DW20; PackageDescription: 20-Pin Plastic Small Outline, Body 12.8 x 7.5 mm, Pitch 1.27 mm; Supplier 1: Digi-Key; Supplier Part Number 1: TLV1543CDWR-ND; Supplier 2: Newark; Supplier Part Number 2: 76C7778; Supplier 3: Mouser; Supplier Part Number 3: 595-TLV1543CDWR; Digital Supply(Max)(V): 5.5; Digital Supply(Min)(V): 4.5; Eco-Plan: Green (RoHS & no Sb/Br); Mounting Technology: Surface Mount; Code_JEDEC: MO-013; ComponentLink1Description: Manufacturer URL; ComponentLink1URL: http://www.ti.com/; ComponentLink2Description: Datasheet; ComponentLink2URL: http://www.ti.com/general/docs/lit/getliterature.tsp?genericPartNumber=TLC1543&fileType=pdf; ComponentLink3Description: Package Specification; ComponentLink3URL: http://www.ti.com/lit/ml/mpds173a/mpds173a.pdf
footprint TI-DW20_N (SOIC, 20-Leads, Body 12.8x7.5mm, Pitch 1.27mm, IPC Medium Density)
footprint TI-DW20_L (SOIC, 20-Leads, Body 12.8x7.5mm, Pitch 1.27mm, IPC High Density)
footprint TI-DW20_M (SOIC, 20-Leads, Body 12.8x7.5mm, Pitch 1.27mm, IPC Low Density)
pins: 1 A0 (in) "Analog signal inputs. The 11 analog inputs are applied to these terminals and are internally multiplexed. The driving source impedance should be less than or equal to 1 kohm.", 2 A1 (in) "Analog signal inputs. The 11 analog inputs are applied to these terminals and are internally multiplexed. The driving source impedance should be less than or equal to 1 kohm.", 3 A2 (in) "Analog signal inputs. The 11 analog inputs are applied to these terminals and are internally multiplexed. The driving source impedance should be less than or equal to 1 kohm.", 4 A3 (in) "Analog signal inputs. The 11 analog inputs are applied to these terminals and are internally multiplexed. The driving source impedance should be less than or equal to 1 kohm.", 5 A4 (in) "Analog signal inputs. The 11 analog inputs are applied to these terminals and are internally multiplexed. The driving source impedance should be less than or equal to 1 kohm.", 6 A5 (in) "Analog signal inputs. The 11 analog inputs are applied to these terminals and are internally multiplexed. The driving source impedance should be less than or equal to 1 kohm.", 7 A6 (in) "Analog signal inputs. The 11 analog inputs are applied to these terminals and are internally multiplexed. The driving source impedance should be less than or equal to 1 kohm.", 8 A7 (in) "Analog signal inputs. The 11 analog inputs are applied to these terminals and are internally multiplexed. The driving source impedance should be less than or equal to 1 kohm.", 9 A8 (in) "Analog signal inputs. The 11 analog inputs are applied to these terminals and are internally multiplexed. The driving source impedance should be less than or equal to 1 kohm.", 10 GND (power) "The ground return terminal for the internal circuitry. Unless otherwise noted, all voltage measurements are with respect to this terminal.", 11 A9 (in) "Analog signal inputs. The 11 analog inputs are applied to these terminals and are internally multiplexed. The driving source impedance should be less than or equal to 1 kohm.", 12 A10 (in) "Analog signal inputs. The 11 analog inputs are applied to these terminals and are internally multiplexed. The driving source impedance should be less than or equal to 1 kohm.", 13 REF- (in) "The lower reference voltage value (nominally ground) is applied to this terminal.", 14 REF+ (in) "The upper reference voltage value (nominally VCC) is applied to this terminal. The maximum input voltage range is determined by the difference between the voltage applied to this terminal and the voltage applied to the REF- (See Datasheet)", 15 ~{CS} (in) "Chip select. A high-to-low transition on this input resets the internal counters and controls and enables DATA OUT, ADDRESS, and I/O CLOCK within a maximum of a setup time plus two falling edges of the internal system clock. (See Datasheet)", 16 DATA OUT (hiz) "The 3-state serial output for the A/D conversion result. This output is in the high-impedance state when C\S\ is high and active when C\S\ is low. With a valid chip select, DATA OUT is removed from the high-impedance state (See Datasheet)", 17 ADDRESS (in) "Serial address input. A 4-bit serial address selects the desired analog input or test voltage that is to be converted next. The address data is presented with the MSB first and shifts in on the first four rising edges of I/O (See Datasheet)", 18 I/O CLOCK (in) "Input/output clock. This terminal receives the serial I/O CLOCK input and performs the following four functions: 1) It clocks the four input address bits into the address register on the first four rising edges of the I/O (See Datasheet)", 19 EOC (out) "End of conversion. This output goes from a high to a low logic level on the trailing edge of the tenth I/O CLOCK and remains low until the conversion is complete and data are ready for transfer.", 20 VCC (power) "Positive supply voltage"